# EAGLE library part LM5015 (library national-semiconductor)
High Voltage Monolithic Two-Switch Forward DC-DC Regulator Source: http://cache.national.com/ds/LM/LM5015.pdf
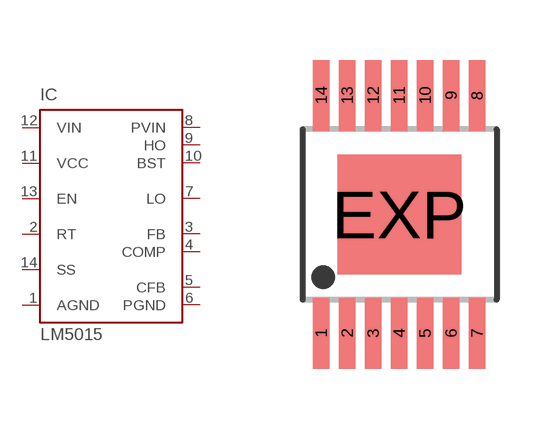
[diagram p4: symbol with the pads of TSSOP14; footprint TSSOP14]

Designator prefix IC

## LM5015 (MPN: LM5015MH/NOPB; OC_FARNELL: 1535370; OC_NEWARK: 64M7033)  [TSSOP14]
1  AGND  pwr
2  RT  in
3  FB  in
4  COMP  in
5  CFB  pwr
6  PGND  pwr
7  LO  out
8  PVIN  in
9  HO  out
10  BST  pas
11  VCC  pwr
12  VIN  in
13  EN  in
14  SS  in

## Footprint TSSOP14 (pad centres in mm)
14-Lead Exposed Pad Package NS Package Number MXA14A Source: http://cache.national.com/ds/LM/LM5015.pdf
smd 0.42 x 1.78: 1 -1.95,-2.975; 2 -1.3,-2.975; 3 -0.65,-2.975; 4 0,-2.975; 5 0.65,-2.975; 6 1.3,-2.975; 7 1.95,-2.975; 8 1.95,2.975; 9 1.3,2.975; 10 0.65,2.975; 11 0,2.975; 12 -0.65,2.975; 13 -1.3,2.975; 14 -1.95,2.975
smd 3.1 x 3: EXP 0,0